# Altium footprint library usb3_plug_to_picoblade.PcbLib: 1 footprints
Each footprint in its own frame and in the unit in brackets; x right, y up, seen from the top. Pads: shape width x height; smd on the part's side, far side on the other; paste and mask are expansions set on the pad; w line width, h text height; cw(c..) or ccw(c..) is an arc to the next point about the centre after c.
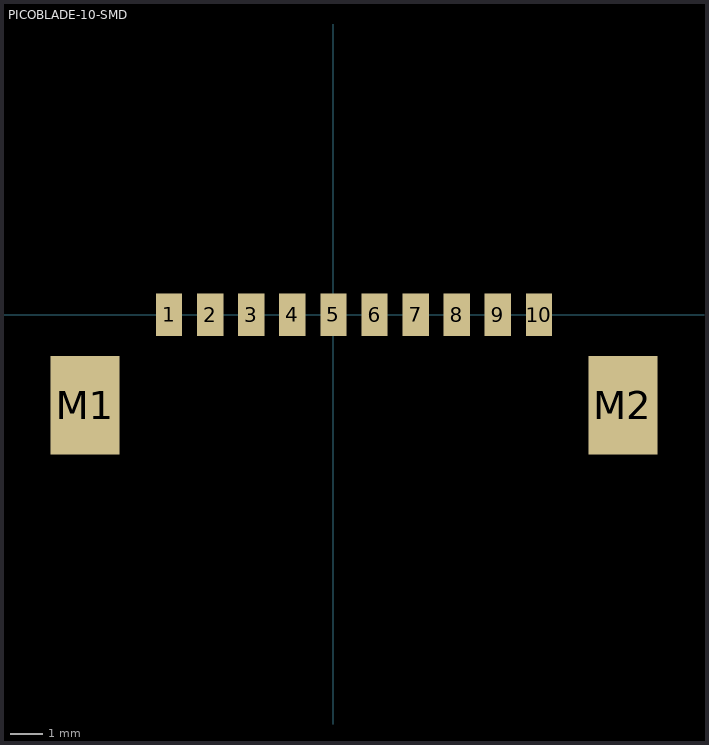
[diagram p0: the footprint, top view; thin cyan lines are the x and y axes]

## PICOBLADE-10-SMD [mm]
pads (12):
  rect 0.8x1.3 smd: 1(-5,0) 2(-3.75,0) 3(-2.5,0) 4(-1.25,0) 5(0,0) 6(1.25,0) 7(2.5,0) 8(3.75,0) 9(5,0) 10(6.25,0)
  rect 2.1x3 smd: M1(-7.55,-2.75) M2(8.8,-2.75)
3D body "533981071.stp": height 4.66, standoff -0.09, extent -8.2,-4 9.45,0.2